# Altium footprint library ResistorCapacitorInductor.PcbLib: 34 footprints (part 3 of 3)
Each footprint in its own frame and in the unit in brackets; x right, y up, seen from the top. Pads: shape width x height; smd on the part's side, far side on the other; paste and mask are expansions set on the pad; w line width, h text height; cw(c..) or ccw(c..) is an arc to the next point about the centre after c.
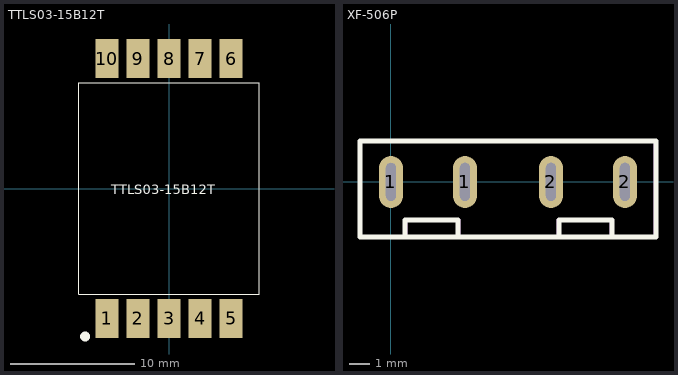
[diagram p2: the footprints below, top view; thin cyan lines are the x and y axes]

## TTLS03-15B12T [mm]
pads (10):
  rect 1.85x3.15 smd: 1(-5,-10.45) 2(-2.5,-10.45) 3(0,-10.45) 4(2.5,-10.45) 5(5,-10.45) 6(5,10.45) 7(2.5,10.45) 8(0,10.45) 9(-2.5,10.45) 10(-5,10.45)
Top Overlay:
  circle w0.4: c-6.75,-11.9 r0.2
  lines w0.1: -7.25,-8.5 -7.25,8.5 7.25,8.5 7.25,-8.5 -7.25,-8.5
  text "TTLS03-15B12T" at -4.65,-0.45 h0.76
3D body "TTLS03-15Bxx-T.stp": height 6.97, standoff -0.1, extent -6.425,-10.825 7.575,11.075

## XF-506P [mm] "for-automotivefuse-mini"
pads (4):
  oval 1.2x2.6 hole 0.5 slot 1.9 at 90 deg: 1(0,0) 1(3.7,0) 2(8,0) 2(11.7,0)
Top Overlay:
  lines w0.254: 0.69,-2.75 0.69,-1.904 3.357,-1.904 3.357,-2.412 3.357,-2.75 ; 8.39,-2.75 8.39,-1.904 11.057,-1.904 11.057,-2.412 11.057,-2.75 ; -1.55,-2.75 -1.55,2.05 13.25,2.05 13.25,-2.75 -1.55,-2.75
Mechanical 6:
  region: 10.95,-2.677 10.95,-1.977 8.5,-1.977 8.5,-2.677 8.3,-2.677 8.3,-1.877 8.35,-1.827 11.1,-1.827 11.15,-1.877 11.15,-2.677
  region: 3.25,-2.677 3.25,-1.977 0.8,-1.977 0.8,-2.677 0.6,-2.677 0.6,-1.877 0.65,-1.827 3.4,-1.827 3.45,-1.877 3.45,-2.677
  region: 13.25,2.123 13.35,2.023 13.35,-2.777 13.3,-2.827 13.15,-2.827 13.15,1.923 13.1,1.973 -1.45,1.973 -1.476,1.947 -1.476,-2.667 -1.5,-2.677 13.1,-2.677 13.1,-2.827 -1.55,-2.827 -1.65,-2.727 -1.65,2.023 -1.55,2.123
Mechanical 15:
  region: 13.31,2.05 13.31,2.075 13.275,2.11 13.225,2.11 13.19,2.075 13.19,2.05 13.19,2.025 13.225,1.99 13.275,1.99 13.31,2.025
  region: 0.15,-0.8 -0.15,-0.8 -0.15,0.8 0.15,0.8
  region: 3.85,-0.8 3.55,-0.8 3.55,0.8 3.85,0.8
  region: 8.15,-0.8 7.85,-0.8 7.85,0.8 8.15,0.8
  region: 11.55,0.8 11.85,0.8 11.85,-0.8 11.55,-0.8
  lines w0.051: -1.55,-2.75 13.25,-2.75 13.25,2.05 -1.55,2.05 -1.55,-2.75